# EAGLE library part MICROSD (library BSBInterface)
microSD Socket Push-push type uSD socket with card detect switch.
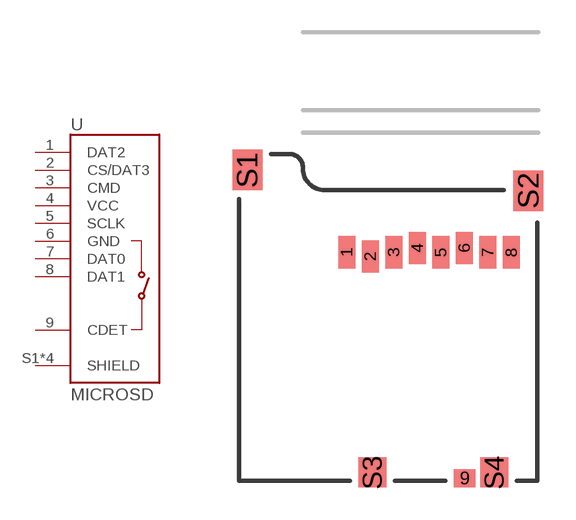
[diagram p6: symbol with the pads of MICRO-SD; footprint MICRO-SD]

Designator prefix U

## MICROSD (JLC_X: 7.28; JLC_Y: -8.1; LCSC_PART: C381079; VALUE: XKTF-001A)  [MICRO-SD]
1  DAT2
2  CS/DAT3
3  CMD
4  VCC  pwr
5  SCLK
6  GND  pwr
7  DAT0
8  DAT1
9  CDET  pas
S1  SHIELD  pas
S2  SHIELD  pas
S3  SHIELD  pas
S4  SHIELD  pas

## Footprint MICRO-SD (pad centres in mm)
smd 0.8 x 1.5: 1 5.35,-4.8; 2 6.45,-5; 3 7.55,-4.8; 4 8.65,-4.6; 5 9.75,-4.8; 6 10.85,-4.6; 7 11.95,-4.8; 8 13.05,-4.8
smd 1 x 0.85: 9 10.86,-15.375
smd 1.4 x 1.9: S1 0.7,-0.95; S2 13.85,-1.92
smd 1.3 x 1.4: S3 6.55,-15.1; S4 12.25,-15.1